# Altium footprint library 450301014042.PcbLib: 1 footprints
Each footprint in its own frame and in the unit in brackets; x right, y up, seen from the top. Pads: shape width x height; smd on the part's side, far side on the other; paste and mask are expansions set on the pad; w line width, h text height; cw(c..) or ccw(c..) is an arc to the next point about the centre after c.
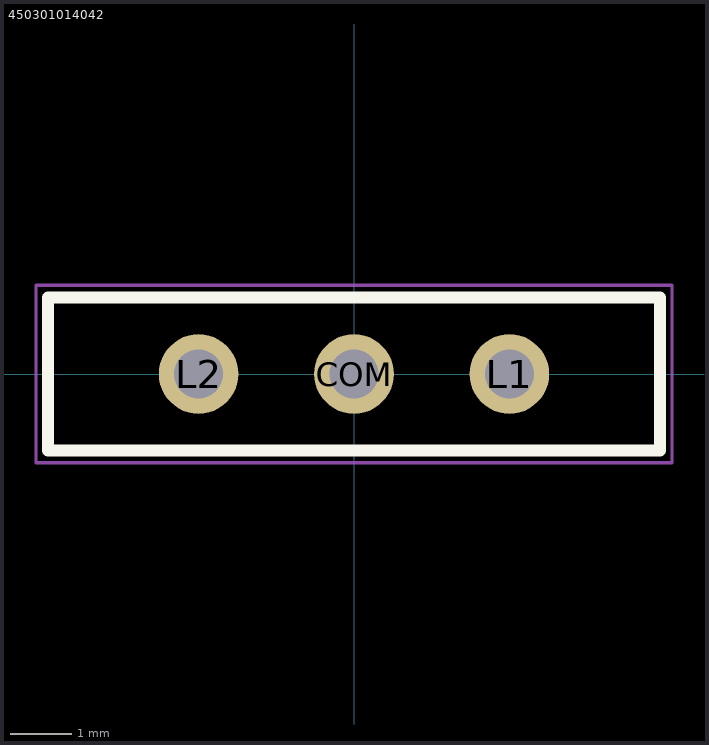
[diagram p0: the footprint, top view; thin cyan lines are the x and y axes]

## 450301014042 [mm] "THT Mini Slide Switch, body 10x2.5mm"
height 6.4
pads (3):
  round 1.3 hole 0.8: COM(0,0) L1(2.54,0) L2(-2.54,0)
Top Overlay:
  lines w0.2: -5,-1.25 5,-1.25 5,1.25 -5,1.25 -5,-1.25
Top Assembly:
  lines w0.1: -5,-1.25 5,-1.25 5,1.25 -5,1.25 -5,-1.25
Top Courtyard:
  lines w0.05: -5.2,-1.45 5.2,-1.45 5.2,1.45 -5.2,1.45 -5.2,-1.45
Top Designator:
  text ".Designator" at -3.52,-0.357 h1
Top Component Center:
  lines w0.05: -0.5,0 0.5,0 ; 0,-0.5 0,0.5
3D body "450301014042.stp": height 6.43, standoff -4.97, extent -5,-1.25 5,1.25